# EAGLE library part PACKAGES_GS27159 (library GPIO Split Protector with Console)
From JBTek USB to Console Cable Board: TTD-C GS27159
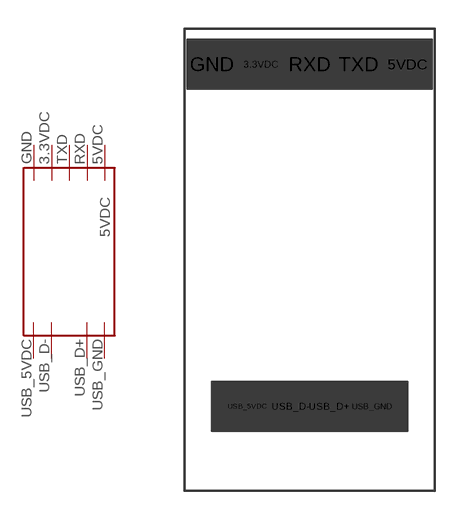
[diagram p3: symbol with the pads of PACKAGES_GS27159; footprint PACKAGES_GS27159]

Designator prefix UART

## PACKAGES_GS27159  [PACKAGES_GS27159]
3.3VDC  3.3VDC  sup
5VDC  5VDC  sup
GND  GND  pwr
RXD  RXD
TXD  TXD
USB_5VDC  USB_5VDC  pwr
USB_D+  USB_D+
USB_D-  USB_D-
USB_GND  USB_GND  pwr

## Footprint PACKAGES_GS27159 (pad centres in mm)
drill 1.1: 3.3VDC -2.54,10.16; 5VDC 5.08,10.16; GND -5.08,10.16; RXD 0,10.16; TXD 2.54,10.16; USB_5VDC -3.24,-7.62; USB_D+ 1,-7.62; USB_D- -1,-7.62; USB_GND 3.24,-7.62
hole 1.1 at 1,-7.62
hole 1.1 at 3.24,-7.62
hole 1.1 at -1,-7.62
hole 1.1 at -3.24,-7.62
hole 1.1 at -5.08,10.16
hole 1.1 at -2.54,10.16
hole 1.1 at 0,10.16
hole 1.1 at 2.54,10.16
hole 1.1 at 5.08,10.16